# Altium footprint library DIODE.PCBLIB: 38 footprints (part 2 of 3)
Each footprint in its own frame and in the unit in brackets; x right, y up, seen from the top. Pads: shape width x height; smd on the part's side, far side on the other; paste and mask are expansions set on the pad; w line width, h text height; cw(c..) or ccw(c..) is an arc to the next point about the centre after c.
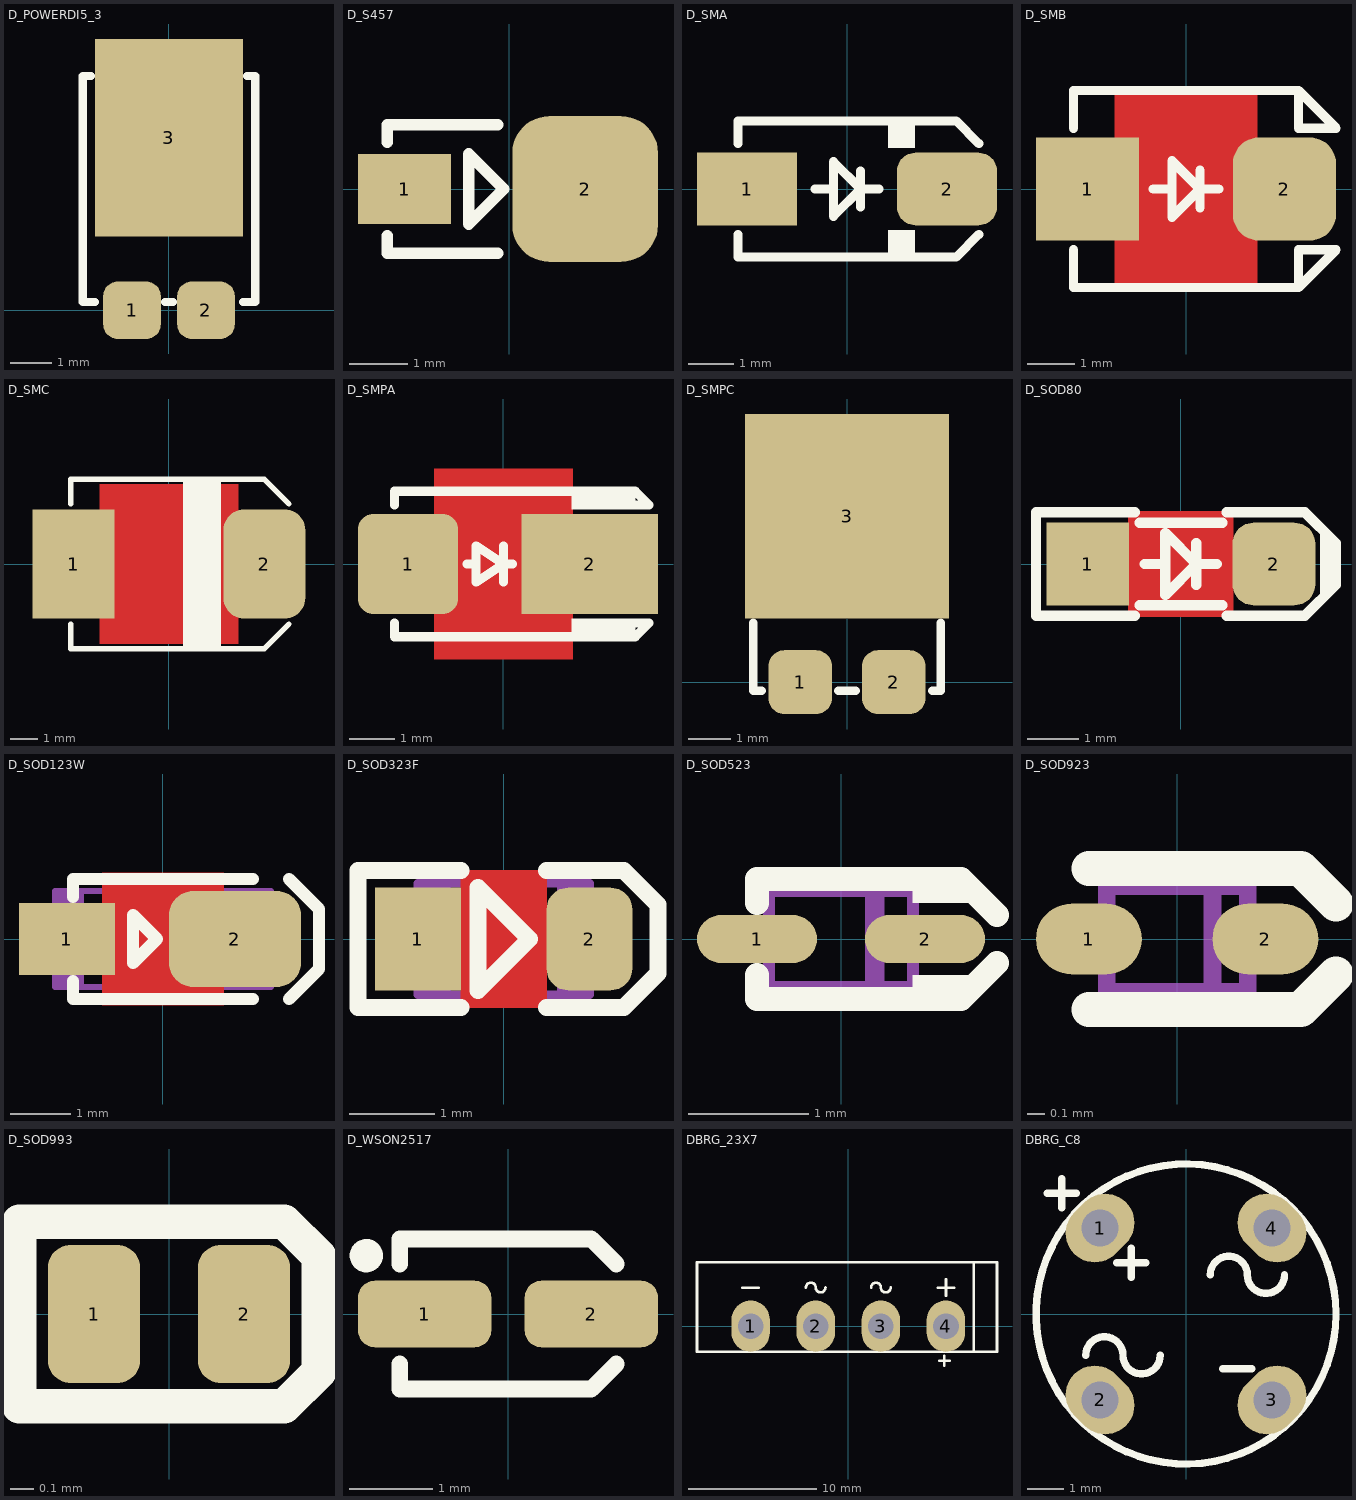
[diagram p1: the footprints below, top view; thin cyan lines are the x and y axes]

## D_POWERDI5_3 [mm] "POWERDI5, Body 5.5x4.0mm"
pads (3):
  rrect50% 1.4x1.4 smd: 1(-0.9,0) 2(0.9,0)
  rect 3.6x4.8 smd: 3(0,4.2)
Top Overlay:
  lines w0.2: -1.9,5.7 -2.1,5.7 -2.1,0.2 -1.8,0.2 ; -0.1,0.2 0.1,0.2 ; 1.8,0.2 2.1,0.2 2.1,5.7 1.9,5.7
3D body "User Library-PowerDI-5.STEP": height 1.17, standoff 0.02, extent -2.025,-0.3 2.025,6.3

## D_S457 [mm] "CASE457-04 Diode, 2-Leads, Body 2x2mm"
height 2.4
pads (2):
  rect 1.6x1.2 smd: 1(-1.8,0)
  rrect50% 2.5x2.5 smd: 2(1.3,0)
Top Overlay:
  lines w0.2: -2.1,-0.8 -2.1,-1.1 -0.2,-1.1 ; -2.1,0.8 -2.1,1.1 -0.2,1.1 ; -0.7,-0.6 -0.1,0 -0.7,0.6 -0.7,-0.6
3D body "User Library-Case 457-4.STEP": height 1.18, standoff 0.02, extent -1.95,-1.025 1.95,1.025

## D_SMA [mm] "SMA Molded Diode, 2-Leads, Body 4.3x2.7mm, SOD-128"
height 2.4
pads (2):
  rect 2.2x1.6 smd: 1(-2.2,0)
  rrect50% 2.2x1.6 smd: 2(2.2,0)
Top Overlay:
  rectangle: 0.9,-1.5 1.5,-0.9
  rectangle: 0.9,0.9 1.5,1.5
  lines w0.2: -2.4,-1 -2.4,-1.5 2.4,-1.5 2.9,-1 ; -2.4,1 -2.4,1.5 2.4,1.5 2.9,1 ; -0.7,0 -0.3,0 ; 0.3,-0.4 0.3,0.4 ; 0.7,0 0.3,0 ; 0.3,0 -0.3,0.6 -0.3,-0.6 0.3,0
3D body "User Library-DIOM5528X26.step": height 2.6, standoff 0.03, extent -2.75,-1.4 2.75,1.4

## D_SMB [mm] "SMB Molded Diode, 2-Leads, Body 4.3x3.5mm"
pads (2):
  rect 2.2x2.2 smd: 1(-2.1,0)
  rrect50% 2.2x2.2 smd: 2(2.1,0)
Top Layer:
  pour cut-out: -1.524,2.1 -1.524,-2.1 1.524,-2.1 1.524,2.1
Top Overlay:
  lines w0.2: -2.4,-1.3 -2.4,-2.1 2.4,-2.1 ; -2.4,1.3 -2.4,2.1 2.4,2.1 ; -0.7,0 -0.3,0 ; 0.3,-0.4 0.3,0.4 ; 0.7,0 0.3,0 ; 0.3,0 -0.3,0.6 -0.3,-0.6 0.3,0 ; 2.4,-2.1 2.4,-1.3 3.2,-1.3 2.4,-2.1 ; 2.4,2.1 3.2,1.3 2.4,1.3 2.4,2.1
3D body "User Library-DIOM5539X24.step": height 2.45, standoff 0.03, extent -2.75,-1.95 2.75,1.95

## D_SMC [mm] "SMC, Molded Diode, 7.0x6.0mm"
height 3
pads (2):
  rect 3x4 smd: 1(-3.5,0)
  rrect50% 3x4 smd: 2(3.5,0)
Top Layer:
  pour cut-out: -2.54,2.921 -2.54,-2.921 2.54,-2.921 2.54,2.921
Top Overlay:
  rectangle: 0.508,-3.048 1.905,3.048
  lines w0.2: -3.6,-2.2 -3.6,-3.1 3.5,-3.1 4.4,-2.2 ; -3.6,2.2 -3.6,3.1 3.5,3.1 4.4,2.2
3D body "User Library-DIOM8261X24.step": height 2.4, standoff 0.03, extent -4.065,-3.05 4.065,3.05

## D_SMPA [mm] "SMPA DO-221BC, 2-Leads, Body 5.2x2.6mm"
pads (2):
  rrect30% 2.2x2.2 smd: 1(-2.1,0)
  rect 3x2.2 smd: 2(1.9,0)
Top Layer:
  pour cut-out: -1.524,2.1 -1.524,-2.1 1.524,-2.1 1.524,2.1
Top Overlay:
  rectangle: 1.5,-1.6 2.9,-1.2
  rectangle: 1.5,1.2 2.9,1.6
  lines w0.2: -2.4,-1.3 -2.4,-1.6 2.9,-1.6 3.2,-1.3 2.4,-1.3 2.4,-1.6 ; -2.4,1.3 -2.4,1.6 2.9,1.6 3.2,1.3 2.4,1.3 2.4,1.6 ; -0.8,0 -0.6,0 ; 0,-0.4 0,0.4 ; 0.2,0 0,0 ; 0,0 -0.6,-0.4 -0.6,0.4 0,0
3D body "User Library-DO-221AC.step": height 1.2, standoff 0, extent -2.8,-1.475 2.8,1.475

## D_SMPC [mm] "SMPC TO-277A, Body 6.1x4.6mm, POWERDI5"
pads (3):
  rrect50% 1.5x1.5 smd: 1(-1.1,0) 2(1.1,0)
  rect 4.8x4.8 smd: 3(0,3.9)
Top Overlay:
  lines w0.2: -2.2,1.4 -2.2,-0.2 -2,-0.2 ; -0.2,-0.2 0.2,-0.2 ; 2,-0.2 2.2,-0.2 2.2,1.4
3D body "User Library-TO-277A(SMPC).step": height 1.2, standoff 0, extent -2.375,-0.35 2.375,6.3

## D_SOD80 [mm] "SOD-80 MINI-MELF 3.6X1.6mm, LL-34, LL4148"
height 1.6
pads (2):
  rect 1.6x1.6 smd: 1(-1.8,0)
  rrect50% 1.6x1.6 smd: 2(1.8,0)
Top Layer:
  pour cut-out: -1.016,1.016 1.016,1.016 1.016,-1.016 -1.016,-1.016
Top Overlay:
  region: 2.7,0.7 2.7,-0.7 3,-0.4 3,0.4
  lines w0.2: -0.889,-1 -2.8,-1 -2.8,1 -0.889,1 ; -0.8,-0.8 0.8,-0.8 ; -0.8,0.8 0.8,0.8 ; -0.7,0 -0.3,0 ; 0.3,-0.4 0.3,0.4 ; 0.7,0 0.3,0 ; 0.889,-1 2.4,-1 3,-0.4 3,0.4 2.4,1 0.889,1 ; 0.3,0 -0.3,-0.6 -0.3,0.6 0.3,0
3D body "User Library-MiniMelf-2.step": height 2, standoff 0.4, extent -1.85,-0.8 1.85,0.8

## D_SOD123W [mm] "PowerDI-123, SOD123, DO-213AA, 1206D"
pads (2):
  rect 1.6x1.2 smd mask+0.1: 1(-1.6,0)
  rrect50% 2.2x1.6 smd mask+0.1: 2(1.2,0)
Top Layer:
  pour cut-out: -1.016,1.1 -1.016,-1.1 1.016,-1.1 1.016,1.1
Top Overlay:
  lines w0.2: -1.5,-0.7 -1.5,-1 1.5,-1 ; -1.5,0.7 -1.5,1 1.5,1 ; 2.1,-1 2.6,-0.5 2.6,0.5 2.1,1 ; -0.5,-0.4 -0.5,0.4 -0.1,0 -0.5,-0.4
Mechanical 13:
  region: -1.316,0.8 -1.8,0.8 -1.8,-0.8 -1.316,-0.8
  lines w0.1: -1.8,-0.8 1.8,-0.8 1.8,0.8 -1.8,0.8 -1.8,-0.8
3D body "User Library-POWERDI-123.STEP": height 1, standoff 0, extent -1.95,-0.965 1.95,0.965

## D_SOD323F [mm] "DIODE0805, SOD323 (PHILIPS), SC-76 (JEITA), DL-35"
height 1.4
pads (2):
  rect 1x1.2 smd mask+0.075: 1(-1,0)
  rrect50% 1x1.2 smd mask+0.075: 2(1,0)
Top Layer:
  pour cut-out: -0.5,0.8 0.5,0.8 0.5,-0.8 -0.5,-0.8
Top Overlay:
  lines w0.2: -0.5,-0.8 -1.7,-0.8 -1.7,0.8 -0.5,0.8 ; 0.5,-0.8 1.4,-0.8 1.8,-0.4 1.8,0.4 1.4,0.8 0.5,0.8 ; -0.3,-0.6 0.3,0 -0.3,0.6 -0.3,-0.6
Mechanical 13:
  region: 0.995,-0.19 0.842,-0.19 0.842,-0.65 0.995,-0.65
  region: 0.995,0.65 0.842,0.65 0.842,0.191 0.995,0.191
  region: 0.848,0.65 0.619,0.65 0.619,-0.65 0.848,-0.65
  rectangle: -0.995,-0.65 -0.842,-0.191
  rectangle: -0.995,0.19 -0.842,0.65
  rectangle: -0.848,-0.65 -0.619,0.65
  lines w0.102: -0.305,0.356 -0.076,0.025 -0.33,0 -0.076,-0.33 ; 0.102,0.356 0.33,0.025 0.076,0 0.33,-0.33 ; -0.076,-0.33 -0.229,-0.279 -0.076,-0.178 -0.076,-0.33 ; 0.33,-0.33 0.178,-0.279 0.33,-0.178 0.33,-0.33 ; -1,-0.65 -1,-0.191 ccw(c-1,0) -1,0.191 -1,0.65 1,0.65 1,0.191 ccw(c1,0) 1,-0.191 1,-0.65 -1,-0.65
3D body "SOD323F.STEP": height 1, standoff 0, extent -1.25,-0.675 1.25,0.675

## D_SOD523 [mm] "SOD523 SC-79 Molded Diode, 2-Leads, 1.2x0.8mm"
height 0.7
pads (2):
  oval 1x0.4 smd mask+0.075: 1(-0.7,0) 2(0.7,0)
Top Overlay:
  region: 0.6,-0.5 0.6,-0.3 1.2,-0.3 1,-0.5
  region: 0.6,0.5 0.6,0.3 1.2,0.3 1,0.5
  lines w0.2: -0.7,-0.3 -0.7,-0.5 1,-0.5 1.3,-0.2 ; -0.7,0.3 -0.7,0.5 1,0.5 1.3,0.2
Mechanical 13:
  rectangle: 0.2,-0.4 0.361,0.4
  lines w0.1: -0.6,-0.4 0.6,-0.4 0.6,0.4 -0.6,0.4 -0.6,-0.4
3D body "User Library-SOD-523F.step": height 0.7, standoff 0, extent -0.8,-0.399 0.8,0.399

## D_SOD923 [mm] "SOD-923 2-Leads, Body 0.60x.8mm"
height 0.4
pads (2):
  oval 0.6x0.4 smd mask+0.075: 1(-0.5,0) 2(0.5,0)
Top Overlay:
  lines w0.2: -0.5,-0.4 0.7,-0.4 0.9,-0.2 ; -0.5,0.4 0.7,0.4 0.9,0.2
Mechanical 13:
  lines w0.1: 0.2,-0.3 0.2,0.3 ; -0.4,-0.3 0.4,-0.3 0.4,0.3 -0.4,0.3 -0.4,-0.3
3D body "User Library-DIODE_SOD-923.step": height 0.43, standoff 0, extent -0.525,-0.325 0.525,0.325

## D_SOD993 [mm] "X2-DSN1006-2, SOD993, 1X0.6X0.3mm"
height 0.3
pads (2):
  rrect50% 0.4x0.6 smd mask+0.075: 1(-0.325,0) 2(0.325,0)
Top Overlay:
  lines w0.15: -0.65,-0.4 0.5,-0.4 0.65,-0.25 0.65,0.25 0.5,0.4 -0.65,0.4 -0.65,-0.4
3D body "User Library-DSN1006-2.step": height 0.47, standoff -0.03, extent -0.5,-0.3 0.5,0.3

## D_WSON2517 [mm] "WSON, DQX 2.5X1.7mm"
height 0.8
pads (2):
  rrect50% 1.6x0.8 smd mask+0.075: 1(-1,0) 2(1,0)
Top Overlay:
  circle w0.2: c-1.7,0.7 r0.1
  lines w0.2: -1.3,-0.6 -1.3,-0.9 1,-0.9 1.3,-0.6 ; -1.3,0.6 -1.3,0.9 1,0.9 1.3,0.6
3D body: height 0.8, standoff 0.01, extent -1.25,-0.85 1.25,0.85
3D body: height 0.2, standoff 0, extent -1.265,0.1 -0.25,0.4
3D body: height 0.2, standoff 0, extent -1.265,-0.4 -0.25,-0.1
3D body: height 0.1, standoff 0, extent -1.1,-0.1 -0.25,0.1
3D body: height 0.1, standoff 0, extent 0.25,-0.1 1.1,0.1
3D body: height 0.2, standoff 0, extent 0.25,-0.4 1.265,-0.1
3D body: height 0.2, standoff 0, extent 0.25,0.1 1.265,0.4

## DBRG_23X7 [mm] "BRDIGE RECTIFIER, KBU 810 pitch: 5.08mm, 23X7X19mm"
height 19
pads (4):
  oval 3x4 hole 2: 1(-7.62,0) 2(-2.54,0) 3(2.54,0) 4(7.62,0)
Top Overlay:
  lines w0.2: -8.255,3.009 -6.985,3.009 ; -3.302,3.015 cw(c-2.921,3.015) -2.54,3.015 ccw(c-2.159,3.015) -1.778,3.015 ; 1.778,3.015 cw(c2.159,3.015) 2.54,3.015 ccw(c2.921,3.015) 3.302,3.015 ; 6.985,3.009 8.255,3.009 ; 7.1,-2.7 7.9,-2.7 ; 7.5,-3.1 7.5,-2.3 ; 7.62,2.374 7.62,3.644 ; 9.8,-2 9.8,5 ; -11.8,-2 11.6,-2 11.6,5 -11.8,5 -11.8,-2
3D body "KBU8M.STEP": height 19.3, standoff -4, extent -11.7,-1.91 11.5,4.95

## DBRG_C8 [mm] "BRDIGE RECTIFIER, pitch: 4.7mm, 8X8mm"
height 5.1
pads (4):
  oval 1.6x2 hole 1 rot 135: 1(-2.35,2.35) 3(2.35,-2.35)
  oval 1.6x2 hole 1 rot 45: 2(-2.35,-2.35) 4(2.35,2.35)
Top Overlay:
  circle w0.2: c0,0 r4.1
  lines w0.2: -3.8,3.3 -3,3.3 ; -3.4,2.9 -3.4,3.7 ; -2.739,-1.129 cw(c-2.231,-1.129) -1.723,-1.129 ccw(c-1.215,-1.129) -0.707,-1.129 ; -1.9,1.4 -1.1,1.4 ; -1.5,1 -1.5,1.8 ; 0.661,1.071 cw(c1.169,1.071) 1.677,1.071 ccw(c2.185,1.071) 2.693,1.071 ; 1,-1.5 1.8,-1.5
3D body "bridge.STEP": height 5.21, standoff -1.9, extent -4.05,-4.05 4.05,4.05